# Altium footprint library Footprint.PcbLib: 1 footprints
Each footprint in its own frame and in the unit in brackets; x right, y up, seen from the top. Pads: shape width x height; smd on the part's side, far side on the other; paste and mask are expansions set on the pad; w line width, h text height; cw(c..) or ccw(c..) is an arc to the next point about the centre after c.
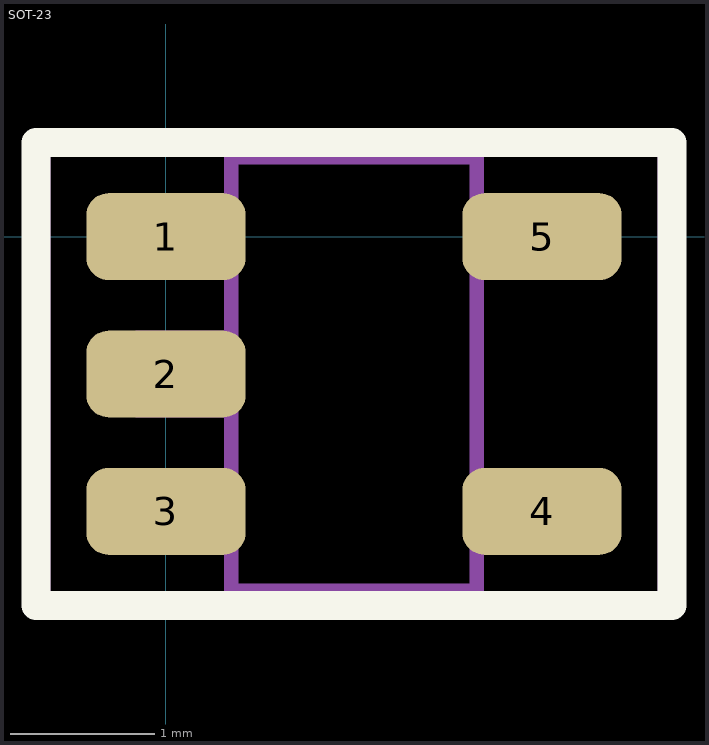
[diagram p0: the footprint, top view; thin cyan lines are the x and y axes]

## SOT-23 [mm] "SOT-23, 5-Leads, Body 2.90x1.60 mm, IPC Medium Density"
height 1.45
pads (5):
  rrect50% 1.1x0.6 smd mask+0.05: 1(0,0) 2(0,-0.95) 3(0,-1.9) 4(2.6,-1.9) 5(2.6,0)
Top Overlay:
  lines w0.2: -0.9,-2.55 -0.9,0.65 3.5,0.65 3.5,-2.55 -0.9,-2.55
Mechanical 3:
  lines w0.1: 0.125,-2.15 0.125,-1.65 ; 0.125,-1.2 0.125,-0.7 ; 0.125,-0.25 0.125,0.25 ; 0.45,-2.15 -0.2,-2.15 -0.2,-1.65 0.45,-1.65 ; 0.45,-1.2 -0.2,-1.2 -0.2,-0.7 0.45,-0.7 ; 0.45,-0.25 -0.2,-0.25 -0.2,0.25 0.45,0.25 ; 2.15,-2.15 2.8,-2.15 2.8,-1.65 2.15,-1.65 ; 2.15,-0.25 2.8,-0.25 2.8,0.25 2.15,0.25 ; 2.475,-2.15 2.475,-1.65 ; 2.475,-0.25 2.475,0.25 ; 0.45,-2.45 2.15,-2.45 2.15,0.55 0.45,0.55 0.45,-2.45
  text ".Designator" at -1.05,1.125 h1.52
Mechanical 10:
  lines w0.1: -0.85,-2.5 3.45,-2.5 3.45,0.6 -0.85,0.6 -0.85,-2.5
3D body "DBV0005A.step": height 1.45, standoff 0, extent -0.2,-2.45 2.8,0.55